# Altium footprint library mpsm.PcbLib: 22 footprints (part 2 of 2)
Each footprint in its own frame and in the unit in brackets; x right, y up, seen from the top. Pads: shape width x height; smd on the part's side, far side on the other; paste and mask are expansions set on the pad; w line width, h text height; cw(c..) or ccw(c..) is an arc to the next point about the centre after c.
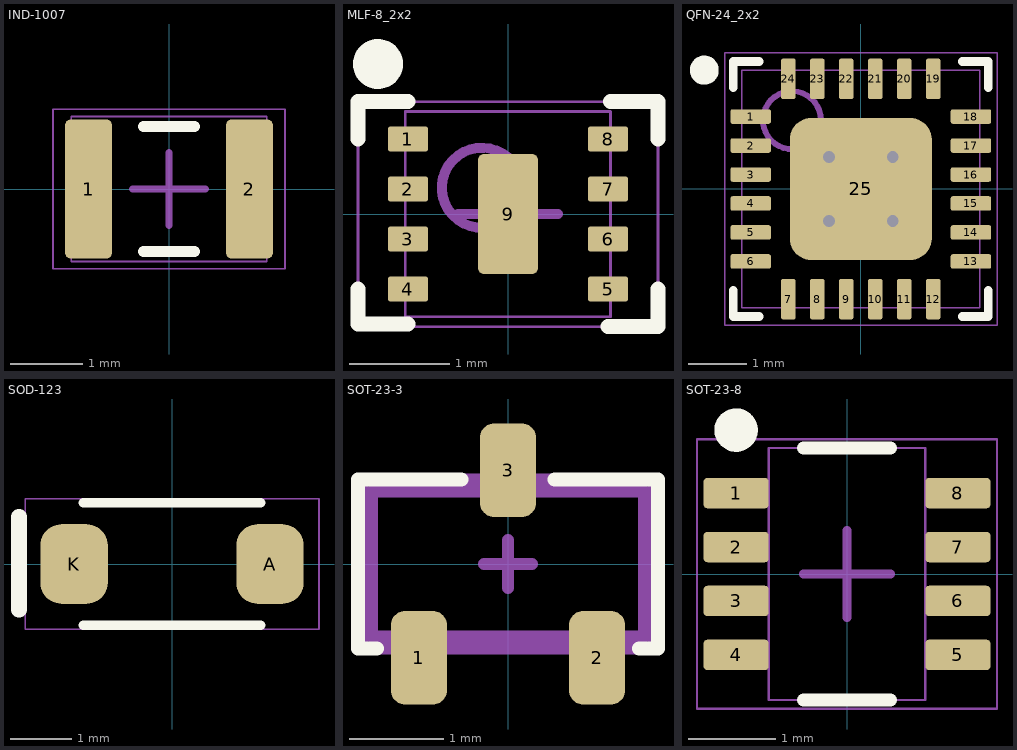
[diagram p1: the footprints below, top view; thin cyan lines are the x and y axes]

## IND-1007 [mm] "Chip Inductor, 2-Leads, Body 2.50x1.80mm, IPC High Density"
height 2
pads (2):
  rrect25% 0.65x1.92 smd: 1(-1.11,0) 2(1.11,0)
Top Overlay:
  lines w0.152: -0.35,-0.86 0.35,-0.86 ; -0.35,0.86 0.35,0.86
Top Assembly:
  lines w0.025: -1.35,-1 1.35,-1 1.35,1 -1.35,1 -1.35,-1
Mechanical 15:
  lines w0.025: -1.6,-1.1 1.6,-1.1 1.6,1.1 -1.6,1.1 -1.6,-1.1
  lines w0.1: -0.5,0 0.5,0 ; 0,-0.5 0,0.5
3D body "LBC2518T100KV--3DModel-STEP-46669.STEP": height 1.85, standoff 0.05, extent -1.25,-1 1.25,1

## MLF-8_2x2 [mm]
height 0.6
pads (9):
  rrect20% 0.4x0.25 smd: 1(-1,0.75) 2(-1,0.25) 3(-1,-0.25) 4(-1,-0.75) 5(1,-0.75) 6(1,-0.25) 7(1,0.25) 8(1,0.75)
  rrect20% 0.6x1.2 smd: 9(0,0)
Top Overlay:
  circle w0.25: c-1.3,1.5 r0.125
  lines w0.152: -1.5,-0.75 -1.5,-1.1 -1,-1.1 ; -1.5,0.75 -1.5,1.125 -1,1.125 ; 1,-1.125 1.5,-1.125 1.5,-0.75 ; 1.025,1.125 1.5,1.125 1.5,0.75
Top Assembly:
  circle w0.1: c-0.263,0.263 r0.4
  lines w0.025: -1.025,-1.025 1.025,-1.025 1.025,1.025 -1.025,1.025 -1.025,-1.025
Mechanical 15:
  lines w0.025: -1.5,-1.125 1.5,-1.125 1.5,1.125 -1.5,1.125 -1.5,-1.125
  lines w0.1: -0.5,0 0.5,0 ; 0,-0.5 0,0.5
3D body "MLF-8_2x2.step": height 0.6, standoff 0, extent -1.075,-1.025 1.075,1.025

## QFN-24_2x2 [mm] "QFN, 24-Leads, Body 4.00x4.00mm, Pitch 0.50mm, Thermal Pad 2.45x2.45mm, IPC High Density"
height 0.8
pads (25):
  rrect30% 0.7x0.25 smd: 1(-1.9,1.25) 2(-1.9,0.75) 3(-1.9,0.25) 4(-1.9,-0.25) 5(-1.9,-0.75) 6(-1.9,-1.25) 13(1.9,-1.25) 14(1.9,-0.75) 15(1.9,-0.25) 16(1.9,0.25) 17(1.9,0.75) 18(1.9,1.25)
  rrect30% 0.25x0.7 smd: 7(-1.25,-1.9) 8(-0.75,-1.9) 9(-0.25,-1.9) 10(0.25,-1.9) 11(0.75,-1.9) 12(1.25,-1.9) 19(1.25,1.9) 20(0.75,1.9) 21(0.25,1.9) 22(-0.25,1.9) 23(-0.75,1.9) 24(-1.25,1.9)
  rrect30% 2.45x2.45 smd: 25(0,0)
via -0.55,0.55 diameter 0.508 hole 0.203
via 0.55,0.55 diameter 0.508 hole 0.203
via -0.55,-0.55 diameter 0.508 hole 0.203
via 0.55,-0.55 diameter 0.508 hole 0.203
Top Overlay:
  circle w0.25: c-2.7,2.05 r0.125
  lines w0.152: -2.2,-1.751 -2.2,-2.2 -1.751,-2.2 ; -2.2,1.751 -2.2,2.2 -1.751,2.2 ; 1.751,-2.2 2.2,-2.2 2.2,-1.751 ; 1.751,2.2 2.2,2.2 2.2,1.751
Top Assembly:
  circle w0.1: c-1.187,1.187 r0.5
  lines w0.025: -2.05,-2.05 -2.05,2.05 2.05,2.05 2.05,-2.05 -2.05,-2.05
Mechanical 15:
  lines w0.025: -2.35,-2.35 -2.35,2.35 2.35,2.35 2.35,-2.35 -2.35,-2.35
  lines w0.1: -0.5,0 0.5,0 ; 0,-0.5 0,0.5
3D body "QFN-24-2x2.step": height 0.8, standoff 0, extent -2.1,-2.1 2.1,2.1

## SOD-123 [mm]
pads (2):
  rrect62% 1.1x1.3 smd: A(1.6,0) K(-1.6,0)
Top Overlay:
  lines w0.152: -1.45,-1 1.45,-1 ; -1.45,1 1.45,1
  lines w0.254: -2.5,-0.749 -2.5,0.775
Mechanical 15:
  lines w0.025: -2.4,-1.062 -2.4,1.063 2.4,1.063 2.4,-1.062 -2.4,-1.062
3D body "SOD-123.STEP": height 1.42, standoff -0.03, extent -1.925,-0.85 1.925,0.85

## SOT-23-3 [mm]
pads (3):
  rrect50% 0.6x1 smd: 1(-0.95,-1) 2(0.95,-1) 3(0,1)
Top Overlay:
  lines w0.152: -1.4,-0.9 -1.6,-0.9 -1.6,0.9 -0.5,0.9 ; 0.5,0.9 1.6,0.9 1.6,-0.9 1.4,-0.9
Top Assembly:
  lines w0.127: -1.45,-0.775 1.45,-0.775 1.45,0.775 -1.45,0.775 -1.45,-0.775
Mechanical 18:
  lines w0.127: -0.254,0 0,0 ; 0,-0.254 0,0 ; 0,0.254 0,0 ; 0.254,0 0,0 ; -1.55,-0.9 1.55,-0.9 1.55,0.9 -1.55,0.9 -1.55,-0.9
3D body "SOT-346T.stp": height 1.1, standoff 0.1, extent -1.45,-1.4 1.45,1.4

## SOT-23-8 [mm] "TSSOP, 8-Leads, Body 2.90x1.63mm, Pitch 0.62mm, IPC High Density"
height 1
pads (8):
  rrect25% 0.75x0.35 smd: 1(-1.275,0.93) 2(-1.275,0.31) 3(-1.275,-0.31) 4(-1.275,-0.93) 5(1.275,-0.93) 6(1.275,-0.31) 7(1.275,0.31) 8(1.275,0.93)
Top Overlay:
  circle w0.25: c-1.275,1.655 r0.125
  lines w0.152: -0.5,-1.45 0.5,-1.45 ; -0.5,1.45 0.5,1.45
Top Assembly:
  lines w0.025: -0.9,-1.45 0.9,-1.45 0.9,1.45 -0.9,1.45 -0.9,-1.45
Mechanical 15:
  lines w0.025: -1.725,-1.55 1.725,-1.55 1.725,1.55 -1.725,1.55 -1.725,-1.55
  lines w0.1: -0.5,0 0.5,0 ; 0,-0.5 0,0.5
3D body "TSSOP62P280X100-8L.step": height 1, standoff 0, extent -1.4,-1.45 1.4,1.45